# EAGLE library part TLV767 (library Harrington-ICs v35)
TLV767 Linear Regulator Texas Instruments - Input Voltage: 2.5-16V - Output Voltage: 0.8-14.6V - Max Current: 1A
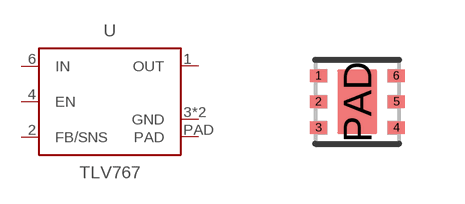
[diagram p7: symbol with the pads of WSON; footprint WSON]

Designator prefix U

## TLV767-3.3V  [WSON]
1  OUT  pwr
2  FB/SNS  in
3  GND  pwr
4  EN  in
5  GND  pwr
6  IN  pwr
PAD  PAD  pwr

## Footprint WSON (pad centres in mm)
smd 0.45 x 0.3: 1 -0.975,0.65; 2 -0.975,0; 3 -0.975,-0.65; 4 0.975,-0.65; 5 0.975,0; 6 0.975,0.65
smd 1 x 1.6: PAD 0,0